# Altium schematic symbol library Buffer_Fairchild_NCWZ07.SchLib: 1 symbol
Pins are listed as number, name and electrical type; pins without a type are passive.

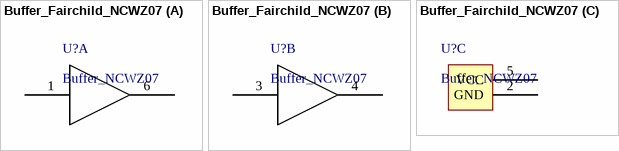
[diagram p0: symbol Buffer_Fairchild_NCWZ07]

## Buffer_Fairchild_NCWZ07
designator U?, comment Buffer_NCWZ07
part A pins: 1, 6
part B pins: 3, 4
part C pins: 2 GND, 5 VCC